# EAGLE library part SIC403 (library stromplatine)
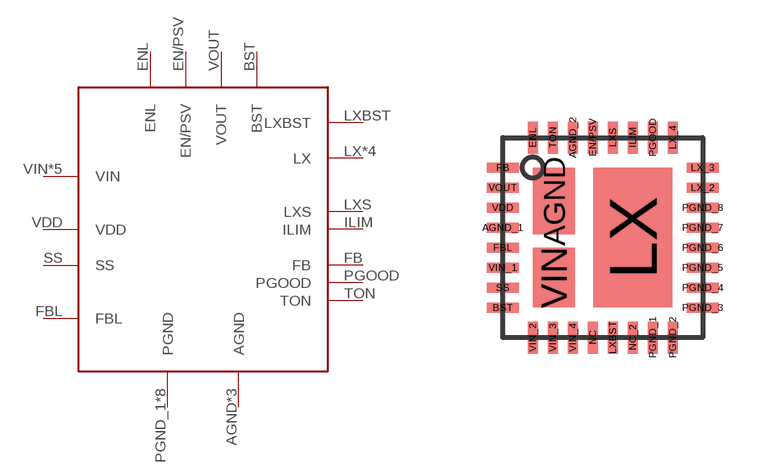
[diagram p0: symbol with the pads of MLP55-32L; footprint MLP55-32L]

Designator prefix -

## SIC403  [MLP55-32L]
AGND  AGND
AGND_1  AGND
AGND_2  AGND
BST  BST
EN/PSV  EN/PSV
ENL  ENL
FB  FB
FBL  FBL
ILIM  ILIM
LX  LX
LX_2  LX
LX_3  LX
LX_4  LX
LXBST  LXBST
LXS  LXS
PGND_1  PGND
PGND_2  PGND
PGND_3  PGND
PGND_4  PGND
PGND_5  PGND
PGND_6  PGND
PGND_7  PGND
PGND_8  PGND
PGOOD  PGOOD
SS  SS
TON  TON
VDD  VDD
VIN  VIN
VIN_1  VIN
VIN_2  VIN
VIN_3  VIN
VIN_4  VIN
VOUT  VOUT

## Footprint MLP55-32L (pad centres in mm)
smd 1.05 x 1.66: AGND -1.215,0.91
smd 0.8 x 0.25: AGND_1 -2.5,0.25; BST -2.5,-1.75; FB -2.5,1.75; FBL -2.5,-0.25; LX_2 2.5,1.25; LX_3 2.5,1.75; PGND_3 2.5,-1.75; PGND_4 2.5,-1.25; PGND_5 2.5,-0.75; PGND_6 2.5,-0.25; PGND_7 2.5,0.25; PGND_8 2.5,0.75; SS -2.5,-1.25; VDD -2.5,0.75; VIN_1 -2.5,-0.75; VOUT -2.5,1.25
smd 0.25 x 0.8: AGND_2 -0.75,2.5; EN/PSV -0.25,2.5; ENL -1.75,2.5; ILIM 0.75,2.5; LX_4 1.75,2.5; LXBST 0.25,-2.5; LXS 0.25,2.5; NC -0.25,-2.5; NC_2 0.75,-2.5; PGND_1 1.25,-2.5; PGND_2 1.75,-2.5; PGOOD 1.25,2.5; TON -1.25,2.5; VIN_2 -1.75,-2.5; VIN_3 -1.25,-2.5; VIN_4 -0.75,-2.5
smd 1.97 x 3.48: LX 0.755,0
smd 1.05 x 1.48: VIN -1.215,-1